# Altium footprint library PCB - LEADED - SOP - INTERSIL SSOP-20.PCBLIB: 1 footprints
Each footprint in its own frame and in the unit in brackets; x right, y up, seen from the top. Pads: shape width x height; smd on the part's side, far side on the other; paste and mask are expansions set on the pad; w line width, h text height; cw(c..) or ccw(c..) is an arc to the next point about the centre after c.
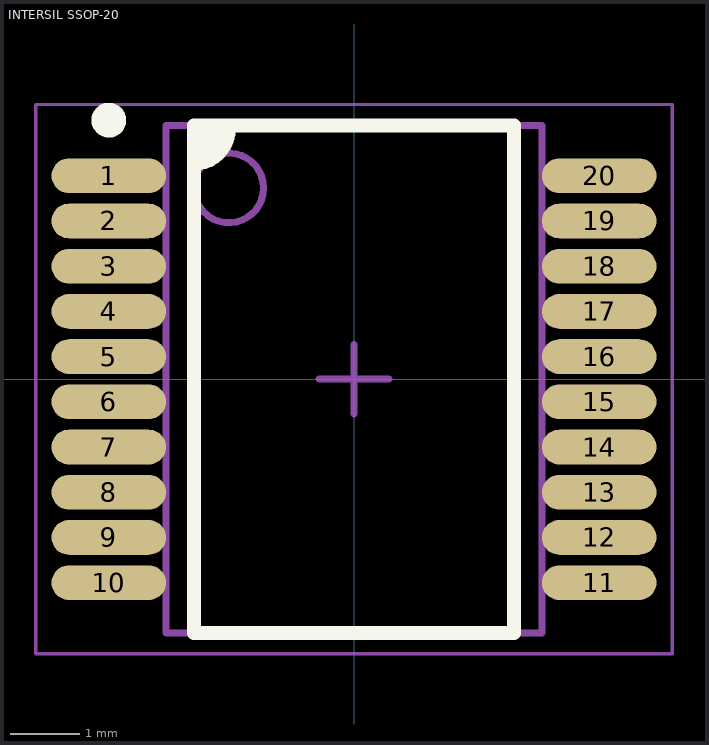
[diagram p0: the footprint, top view; thin cyan lines are the x and y axes]

## INTERSIL SSOP-20 [mm] "SSOP, 20-Leads, Body 7.20x5.29mm, Pitch 0.65mm, IPC Medium Density"
height 1.99
pads (20):
  oval 1.65x0.5 smd: 1(-3.525,2.925) 2(-3.525,2.275) 3(-3.525,1.625) 4(-3.525,0.975) 5(-3.525,0.325) 6(-3.525,-0.325) 7(-3.525,-0.975) 8(-3.525,-1.625) 9(-3.525,-2.275) 10(-3.525,-2.925) 11(3.525,-2.925) 12(3.525,-2.275) 13(3.525,-1.625) 14(3.525,-0.975) 15(3.525,-0.325) 16(3.525,0.325) 17(3.525,0.975) 18(3.525,1.625) 19(3.525,2.275) 20(3.525,2.925)
Top Overlay:
  circle w0.25: c-3.525,3.725 r0.125
  region: -1.8,3.65 -2.3,3.65 -2.3,3.1 -2.1,3.1 -1.8,3.4
  lines w0.2: -2.3,3.1 ccw(c-2.3,3.6) -1.8,3.6 ; -2.3,-3.65 2.3,-3.65 2.3,3.65 -2.3,3.65 -2.3,-3.65
Mechanical 13:
  circle w0.1: c-1.8,2.75 r0.5
  lines w0.1: -2.7,-3.65 -2.7,3.65 2.7,3.65 2.7,-3.65 -2.7,-3.65
Mechanical 15:
  lines w0.05: -4.575,-3.95 -4.575,3.95 4.575,3.95 4.575,-3.95 -4.575,-3.95
Mechanical 2 (Mech9):
  lines w0.1: -0.5,0 0.5,0 ; 0,-0.5 0,0.5
3D body "SSOP-20.STEP": height 1.97, standoff 0, extent -3.91,-3.6 3.911,3.6